# Altium footprint library Conectores_Ftp.PcbLib: 25 footprints (part 2 of 2)
Each footprint in its own frame and in the unit in brackets; x right, y up, seen from the top. Pads: shape width x height; smd on the part's side, far side on the other; paste and mask are expansions set on the pad; w line width, h text height; cw(c..) or ccw(c..) is an arc to the next point about the centre after c.
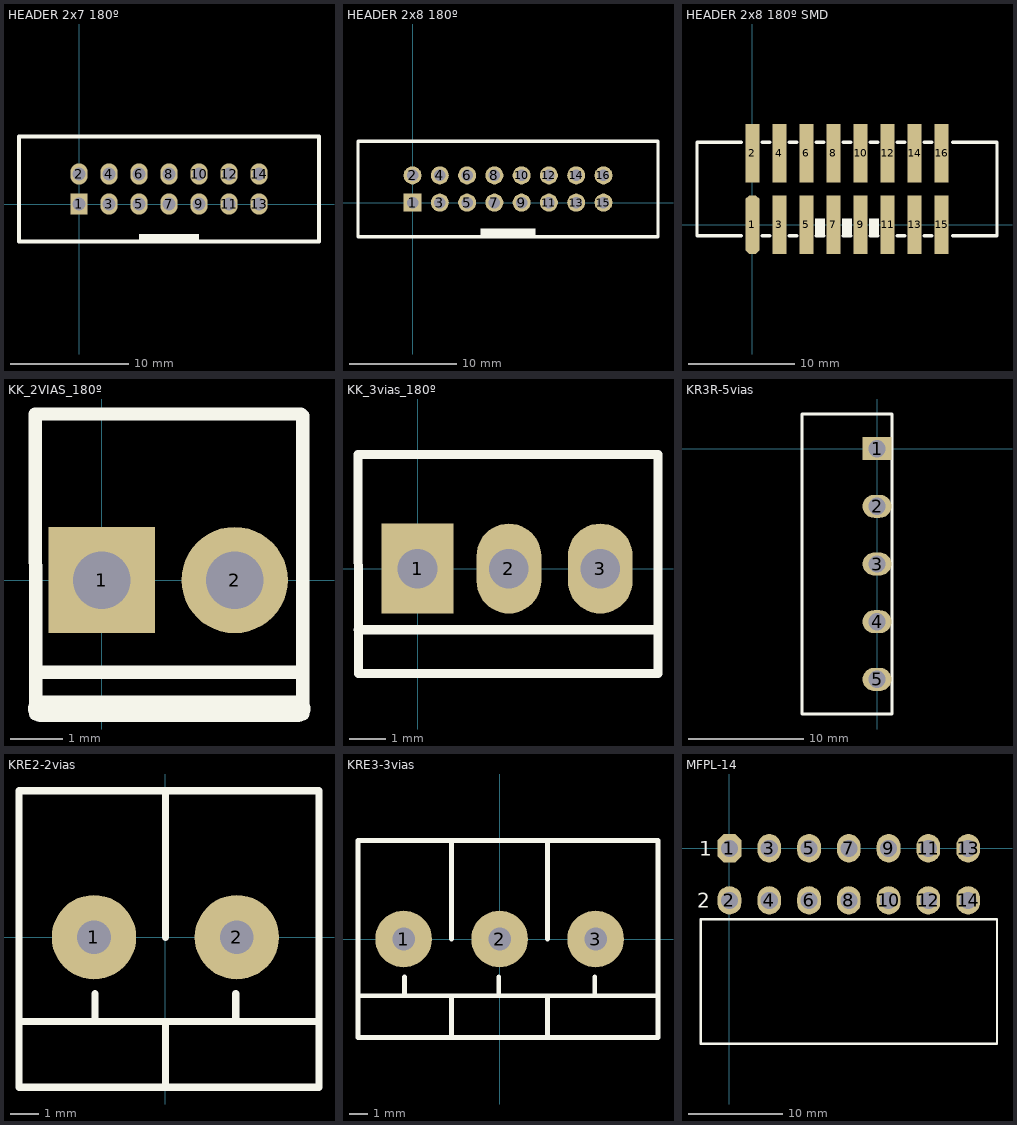
[diagram p1: the footprints below, top view; thin cyan lines are the x and y axes]

## HEADER 2x7 180º [mm]
pads (14):
  rect 1.45x1.8 hole 1.067: 1(0,0)
  oval 1.45x1.8 hole 1.067: 2(0,2.54) 3(2.54,0) 4(2.54,2.54) 5(5.08,0) 6(5.08,2.54) 7(7.62,0) 8(7.62,2.54) 9(10.16,0) 10(10.16,2.54) 11(12.7,0) 12(12.7,2.54) 13(15.24,0) 14(15.24,2.54)
Top Overlay:
  rectangle: 5.08,-3.175 10.16,-2.54
  lines w0.3: -5.08,-3.175 -5.08,5.715 20.32,5.715 20.32,-3.175 -5.08,-3.175

## HEADER 2x8 180º [mil]
pads (16):
  rect 66x66 hole 42: 1(0,0)
  round 66 hole 42: 2(0,100) 3(100,0) 4(100,100) 5(200,0) 6(200,100) 7(300,0) 8(300,100) 9(400,0) 10(400,100) 11(500,0) 12(500,100) 13(600,0) 14(600,100) 15(700,0) 16(700,100)
Top Overlay:
  rectangle: 250,-120 450,-95
  lines w11.81: -200,-125 -200,225 900,225 900,-125 -200,-125
3D body: height 350.39, standoff -114.61, extent -199.99,-129.99 900.01,233

## HEADER 2x8 180º SMD [mm]
pads (16):
  oct 1.3x5.5 smd: 1(0,0)
  rect 1.3x5.5 smd: 2(0,6.7) 3(2.54,0) 4(2.54,6.7) 5(5.08,0) 6(5.08,6.7) 7(7.62,0) 8(7.62,6.7) 9(10.16,0) 10(10.16,6.7) 11(12.7,0) 12(12.7,6.7) 13(15.24,0) 14(15.24,6.7) 15(17.78,0) 16(17.78,6.7)
Top Overlay:
  rectangle: 5.891,-1.05 6.811,0.556
  rectangle: 8.431,-1.05 9.351,0.556
  rectangle: 10.971,-1.05 11.891,0.556
  lines w0.3: -1.029,-1.05 -5.22,-1.05 -5.22,7.75 -1.029,7.75 ; 0.911,-1.05 1.631,-1.05 ; 0.911,7.75 1.631,7.75 ; 3.451,-1.05 4.171,-1.05 ; 3.451,7.75 4.171,7.75 ; 5.991,-1.05 6.711,-1.05 ; 5.991,7.75 6.711,7.75 ; 8.531,-1.05 9.251,-1.05 ; 8.531,7.75 9.251,7.75 ; 11.071,-1.05 11.791,-1.05 ; 11.071,7.75 11.791,7.75 ; 13.611,-1.05 14.331,-1.05 ; 13.611,7.75 14.331,7.75 ; 16.151,-1.05 16.871,-1.05 ; 16.151,7.75 16.871,7.75 ; 18.809,-1.05 23,-1.05 23,7.75 18.809,7.75
3D body: height 10.4, standoff -0.02, extent -5.08,-1.448 22.86,8.052

## KK_2VIAS_180º [mil]
pads (2):
  rect 80x80 hole 43.31: 1(0,0)
  round 80 hole 43.31: 2(100,0)
Top Overlay:
  lines w10: -49.66,-69.44 149.76,-69.44 ; -49.61,-100.79 -50,125 150,125 ; 151.18,-100.79 151.18,123.62
  lines w19.68: -45.67,-96.85 147.24,-96.85
3D body: height 464.21, standoff -137.44, extent -61.38,-108.11 165,128.11

## KK_3vias_180º [mm]
pads (3):
  rect 2x2.5 hole 1.1: 1(0,0)
  oval 1.8x2.5 hole 1.1: 2(2.54,0) 3(5.08,0)
Top Overlay:
  lines w0.254: -1.651,-1.7 6.685,-1.7 ; -1.655,3.175 -1.644,-2.921 6.685,-2.921 6.685,3.175 -1.655,3.175
3D body: height 11.9, standoff -3.38, extent -1.605,-2.952 6.685,3.048

## KR3R-5vias [mm]
pads (5):
  rect 2.5x2 hole 1.5: 1(0,0)
  oval 2.5x2 hole 1.5: 2(0,-5) 3(0,-10) 4(0,-15) 5(0,-20)
Top Overlay:
  lines w0.254: -6.5,-23 -6.5,3 1.3,3 1.3,-23 -6.5,-23

## KRE2-2vias [mm]
pads (2):
  round 3 hole 1.2: 1(-2.54,0) 2(2.54,0)
Top Overlay:
  lines w0.254: -5.207,-3 5.461,-3 ; -2.5,-3 -2.5,-2 ; 0,-5.334 0,-3 ; 0,0 0,5.207 ; 2.5,-3 2.5,-2 ; -5.207,-5.334 -5.207,5.207 5.46,5.207 5.461,-5.334 -5.207,-5.334
3D body: height 14.35, standoff -4.95, extent -5.126,-5.334 5.634,5.166

## KRE3-3vias [mm]
pads (3):
  round 3 hole 1.2: 1(-5.08,0) 2(0,0) 3(5.08,0)
Top Overlay:
  lines w0.254: -7.493,-3 8.382,-3 ; -5.04,-3 -5.04,-2 ; -2.54,-5.207 -2.54,-3 ; -2.54,0 -2.54,5.207 ; -0.04,-3 -0.04,-2 ; 2.54,-5.207 2.54,-3 ; 2.54,0 2.54,5.207 ; 5.04,-3 5.04,-2 ; -7.493,-5.207 -7.493,5.207 8.382,5.207 8.382,-5.207 -7.493,-5.207
3D body: height 14.35, standoff -4.95, extent -7.539,-5.293 8.301,5.207

## MFPL-14 [mm]
pads (14):
  oct 2.5x3 hole 1.8: 1(0,0)
  oval 2.5x3 hole 1.8: 2(0,-5.5) 3(4.2,0) 4(4.2,-5.5) 5(8.4,0) 6(8.4,-5.5) 7(12.6,0) 8(12.6,-5.5) 9(16.8,0) 10(16.8,-5.5) 11(21,0) 12(21,-5.5) 13(25.2,0) 14(25.2,-5.5)
Top Overlay:
  lines w0.254: -3.05,-20.65 28.25,-20.65 28.25,-7.5 -3.05,-7.5 -3.05,-20.65
  text "2" at -3.429,-6.262 h1.52
  text "1" at -3.175,-0.762 h1.52
3D body: height 11.42, standoff -3.48, extent -7.727,-19.431 32.873,0.504